# Altium integrated library TI Amplifiers and Linear Special Function Amplifier.IntLib: 708 symbols (part 33 of 47)
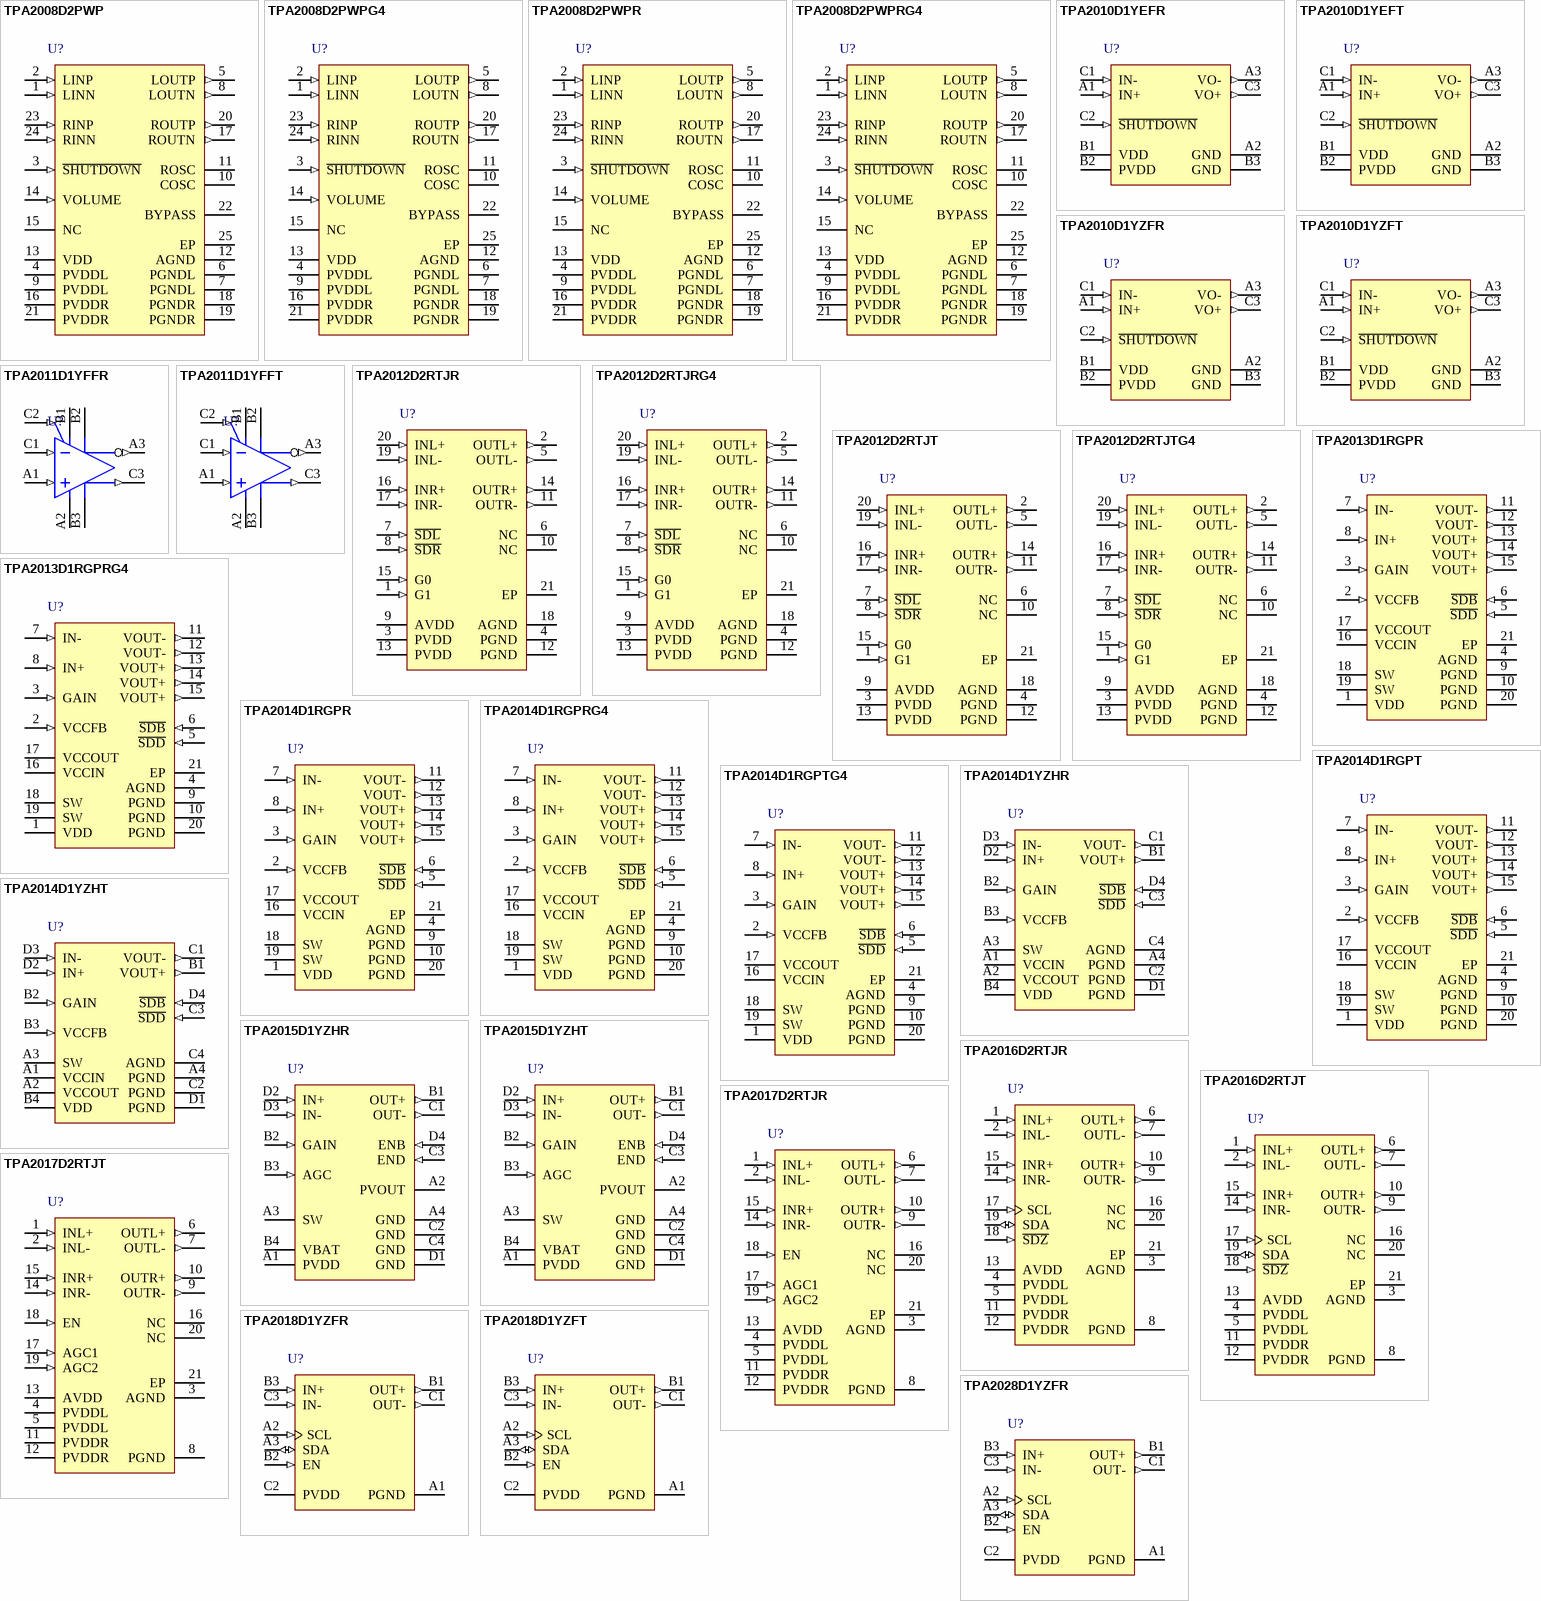
[diagram p71: symbols TPA2008D2PWP to TPA2028D1YZFR]

## TPA2014D1YZHT
designator U?
1.5-W Constant Output Power Class-D Audio Amplifier with Integrated Boost Converter, -40 to 85 degC, 16-pin BGA (YZH16), Green (RoHS & no Sb/Br); Manufacturer: Texas Instruments; PartNumber: TPA2014D1YZHT; Output Power(W): 1.5; PSRR(dB): -91; Speaker Channels: Mono; SubFamily: Dynamic Speaker; Supply Max(Max)(Volt): 5.5; Supply Min(Min)(Volt): 2.5; DatasheetVersion: SLAS559A; PackageVersion: 4205060/F, 05/2013; PackageReference: YZH16-2280X2280DE; PackageDescription: 16-Ball Silicon Grid Array, Body 2.28 x 2.28 mm, Pitch 0.5 mm; Supplier 1: Digi-Key; Supplier Part Number 1: TPA2014D1YZHT-ND; Supplier 2: Mouser; Supplier Part Number 2: 595-TPA2014D1YZHT; Eco-Plan: Green (RoHS & no Sb/Br); Speaker Amp Type: Class-D; Mounting Technology: Surface Mount; ComponentLink1Description: Manufacturer URL; ComponentLink1URL: http://www.ti.com/; ComponentLink2Description: Datasheet; ComponentLink2URL: http://www.ti.com/general/docs/lit/getliterature.tsp?genericPartNumber=TPA2014D1&fileType=pdf; ComponentLink3Description: Package Specification; ComponentLink3URL: http://www.ti.com/lit/ds/symlink/tpa2014d1.pdf
footprint TI-YZH16-2280X2280DE (BGA, 16-Balls, Body 2.28x2.28mm, Pitch 0.5mm)
pins: A1 VCCIN (power) "Class-D audio power amplifier voltage supply - connect to VCCOUT", A2 VCCOUT (power) "Boost converter output - connect to VCCIN", A3 SW (power) "Boost and rectifying switch input", A4 PGND (power) "Power ground - connect all GND pins together", B1 VOUT+ (out) "Positive audio output", B2 GAIN (in) "Gain selection pin", B3 VCCFB (in) "Voltage feedback", B4 VDD (power) "Supply voltage", C1 VOUT- (out) "Negative audio output", C2 PGND (power) "Power ground - connect all GND pins together", C3 ~{SDD} (in) "Shutdown terminal for the Class D Amplifier", C4 AGND (power) "Analog ground - connect all GND pins together", D1 PGND (power) "Power ground - connect all GND pins together", D2 IN+ (in) "Positive audio input", D3 IN- (in) "Negative audio input", D4 ~{SDB} (in) "Shutdown terminal for the Boost Converter"

## TPA2015D1YZHR
designator U?
2-W Class-D Audio Amplifier with Adaptive Boost and Battery Tracking SpeakerGuard AGC, -40 to 85 degC, 16-pin BGA (YZH16), Green (RoHS & no Sb/Br); Manufacturer: Texas Instruments; PartNumber: TPA2015D1YZHR; Output Power(W): 1.2; PSRR(dB): 75; Speaker Channels: Mono; SubFamily: Dynamic Speaker; Supply Max(Max)(Volt): 5.2; Supply Min(Min)(Volt): 2.5; DatasheetVersion: SLOS638A; PackageVersion: 4205060/F, 05/2013; PackageReference: YZH16-1954X1954DE; PackageDescription: 16-Ball Silicon Grid Array, Body 1.945 x 1.945 mm, Pitch 0.5 mm; Supplier 1: Digi-Key; Supplier Part Number 1: 296-27551-2-ND; Supplier 2: Digi-Key; Supplier Part Number 2: 296-27551-1-ND; Supplier 3: Digi-Key; Supplier Part Number 3: 296-27551-6-ND; Supplier 4: Farnell; Supplier Part Number 4: 1829672; Supplier 5: Newark; Supplier Part Number 5: 78R4082; Supplier 6: Mouser; Supplier Part Number 6: 595-TPA2015D1YZHR; Eco-Plan: Green (RoHS & no Sb/Br); Speaker Amp Type: Class-D; Special Features: AGC; Mounting Technology: Surface Mount; ComponentLink1Description: Manufacturer URL; ComponentLink1URL: http://www.ti.com/; ComponentLink2Description: Datasheet; ComponentLink2URL: http://www.ti.com/general/docs/lit/getliterature.tsp?genericPartNumber=TPA2015D1&fileType=pdf; ComponentLink3Description: Package Specification; ComponentLink3URL: http://www.ti.com/lit/ds/symlink/tpa2015d1.pdf
footprint TI-YZH16-1954X1954DE (BGA, 16-Balls, Body 1.954x1.954mm, Pitch 0.5mm)
pins: A1 PVDD (power) "Class-D power stage supply voltage.", A2 PVOUT (power) "Boost converter output.", A3 SW (power) "Boost and rectifying switch input.", A4 GND (power) "Ground; all ground balls must be connected for proper functionality.", B1 OUT+ (out) "Positive audio output.", B2 GAIN (in) "Gain selection pin.", B3 AGC (in) "Enable and select AGC.", B4 VBAT (power) "Supply voltage.", C1 OUT- (out) "Negative audio output.", C2 GND (power) "Ground; all ground balls must be connected for proper functionality.", C3 END (in) "Enable for the Class-D amplifier; set to logic high to enable.", C4 GND (power) "Ground; all ground balls must be connected for proper functionality.", D1 GND (power) "Ground; all ground balls must be connected for proper functionality.", D2 IN+ (in) "Positive audio input.", D3 IN- (in) "Negative audio input.", D4 ENB (in) "Enable for the boost converter; set to logic high to enable."

## TPA2015D1YZHT
designator U?
2-W Class-D Audio Amplifier with Adaptive Boost and Battery Tracking SpeakerGuard AGC, -40 to 85 degC, 16-pin BGA (YZH16), Green (RoHS & no Sb/Br); Manufacturer: Texas Instruments; PartNumber: TPA2015D1YZHT; Output Power(W): 1.2; PSRR(dB): 75; Speaker Channels: Mono; SubFamily: Dynamic Speaker; Supply Max(Max)(Volt): 5.2; Supply Min(Min)(Volt): 2.5; DatasheetVersion: SLOS638A; PackageVersion: 4205060/F, 05/2013; PackageReference: YZH16-1954X1954DE; PackageDescription: 16-Ball Silicon Grid Array, Body 1.945 x 1.945 mm, Pitch 0.5 mm; Supplier 1: Digi-Key; Supplier Part Number 1: 296-32451-2-ND; Supplier 2: Digi-Key; Supplier Part Number 2: 296-32451-1-ND; Supplier 3: Digi-Key; Supplier Part Number 3: 296-32451-6-ND; Supplier 4: Mouser; Supplier Part Number 4: 595-TPA2015D1YZHT; Eco-Plan: Green (RoHS & no Sb/Br); Speaker Amp Type: Class-D; Special Features: AGC; Mounting Technology: Surface Mount; ComponentLink1Description: Manufacturer URL; ComponentLink1URL: http://www.ti.com/; ComponentLink2Description: Datasheet; ComponentLink2URL: http://www.ti.com/general/docs/lit/getliterature.tsp?genericPartNumber=TPA2015D1&fileType=pdf; ComponentLink3Description: Package Specification; ComponentLink3URL: http://www.ti.com/lit/ds/symlink/tpa2015d1.pdf
footprint TI-YZH16-1954X1954DE (BGA, 16-Balls, Body 1.954x1.954mm, Pitch 0.5mm)
pins: A1 PVDD (power) "Class-D power stage supply voltage.", A2 PVOUT (power) "Boost converter output.", A3 SW (power) "Boost and rectifying switch input.", A4 GND (power) "Ground; all ground balls must be connected for proper functionality.", B1 OUT+ (out) "Positive audio output.", B2 GAIN (in) "Gain selection pin.", B3 AGC (in) "Enable and select AGC.", B4 VBAT (power) "Supply voltage.", C1 OUT- (out) "Negative audio output.", C2 GND (power) "Ground; all ground balls must be connected for proper functionality.", C3 END (in) "Enable for the Class-D amplifier; set to logic high to enable.", C4 GND (power) "Ground; all ground balls must be connected for proper functionality.", D1 GND (power) "Ground; all ground balls must be connected for proper functionality.", D2 IN+ (in) "Positive audio input.", D3 IN- (in) "Negative audio input.", D4 ENB (in) "Enable for the boost converter; set to logic high to enable."

## TPA2016D2RTJR
designator U?
2.8-W/Ch Stereo Class-D Audio Amplifier with SmartGainTM AGC / DRC, -40 to 85 degC, 20-pin QFN (RTJ20), Green (RoHS & no Sb/Br); Manufacturer: Texas Instruments; PartNumber: TPA2016D2RTJR; Output Power(W): 2.8; PSRR(dB): -80; SubFamily: Dynamic Speaker; Supply Max(Max)(Volt): 5.5; Supply Min(Min)(Volt): 2.5; DatasheetVersion: SLOS524D; PackageVersion: 4205505/F, 07/2011; PackageReference: RTJ20-2700X2700TP; PackageDescription: 20-pin Plastic Flat Pack, Body 4 x 4 mm, Pitch 0.5 mm; Supplier 1: Digi-Key; Supplier Part Number 1: 296-25430-2-ND; Supplier 2: Digi-Key; Supplier Part Number 2: 296-25430-1-ND; Supplier 3: Digi-Key; Supplier Part Number 3: 296-25430-6-ND; Supplier 4: Mouser; Supplier Part Number 4: 595-TPA2016D2RTJR; Eco-Plan: Green (RoHS & no Sb/Br); Speaker Amp Type: Class-D; Speaker Channels: Stereo; Special Features: AGC/DRC; Mounting Technology: Surface Mount; ComponentLink1Description: Manufacturer URL; ComponentLink1URL: http://www.ti.com/; ComponentLink2Description: Datasheet; ComponentLink2URL: http://www.ti.com/general/docs/lit/getliterature.tsp?genericPartNumber=TPA2016D2&fileType=pdf; ComponentLink3Description: Package Specification; ComponentLink3URL: http://www.ti.com/litv/pdf/mpqf156e
footprint TI-RTJ20-2700X2700TP_V (QFN, 20-Leads, Body 4x4mm, Pitch 0.5mm, Thermal Pad 2.7x2.7mm)
pins: 1 INL+ (in) "Left channel positive audio input", 2 INL- (in) "Left channel negative audio input", 3 AGND (power) "Analog ground (all GND pins need to be connected)", 4 PVDDL (power) "Left channel power supply (must be the same as AVDD and PVDDR)", 5 PVDDL (power) "Left channel power supply (must be the same as AVDD and PVDDR)", 6 OUTL+ (out) "Left channel positive differential output", 7 OUTL- (out) "Left channel negative differential output", 8 PGND (power) "Power ground (all GND pins need to be connected)", 9 OUTR- (out) "Right channel negative differential output", 10 OUTR+ (out) "Right channel positive differential output", 11 PVDDR (power) "Right channel power supply (must be the same as AVDD and PVDDL)", 12 PVDDR (power) "Right channel power supply (must be the same as AVDD and PVDDL)", 13 AVDD (power) "Analog supply (must be the same as PVDDR and PVDDL)", 14 INR- (in) "Right channel negative audio input", 15 INR+ (in) "Right channel positive audio input", 16 NC "Not connected", 17 SCL (in) "I2C clock interface", 18 ~{SDZ} (in) "Shutdown terminal (active low)", 19 SDA (io) "I2C data interface", 20 NC "Not connected", 21 EP

## TPA2016D2RTJT
designator U?
2.8-W/Ch Stereo Class-D Audio Amplifier with SmartGainTM AGC / DRC, -40 to 85 degC, 20-pin QFN (RTJ20), Green (RoHS & no Sb/Br); Manufacturer: Texas Instruments; PartNumber: TPA2016D2RTJT; Output Power(W): 2.8; PSRR(dB): -80; SubFamily: Dynamic Speaker; Supply Max(Max)(Volt): 5.5; Supply Min(Min)(Volt): 2.5; DatasheetVersion: SLOS524D; PackageVersion: 4205505/F, 07/2011; PackageReference: RTJ20-2700X2700TP; PackageDescription: 20-pin Plastic Flat Pack, Body 4 x 4 mm, Pitch 0.5 mm; Supplier 1: Digi-Key; Supplier Part Number 1: 296-32452-2-ND; Supplier 2: Digi-Key; Supplier Part Number 2: 296-32452-1-ND; Supplier 3: Digi-Key; Supplier Part Number 3: 296-32452-6-ND; Supplier 4: Newark; Supplier Part Number 4: 50R8081; Supplier 5: Mouser; Supplier Part Number 5: 595-TPA2016D2RTJT; Eco-Plan: Green (RoHS & no Sb/Br); Speaker Amp Type: Class-D; Speaker Channels: Stereo; Special Features: AGC/DRC; Mounting Technology: Surface Mount; ComponentLink1Description: Manufacturer URL; ComponentLink1URL: http://www.ti.com/; ComponentLink2Description: Datasheet; ComponentLink2URL: http://www.ti.com/general/docs/lit/getliterature.tsp?genericPartNumber=TPA2016D2&fileType=pdf; ComponentLink3Description: Package Specification; ComponentLink3URL: http://www.ti.com/litv/pdf/mpqf156e
footprint TI-RTJ20-2700X2700TP_V (QFN, 20-Leads, Body 4x4mm, Pitch 0.5mm, Thermal Pad 2.7x2.7mm)
pins: 1 INL+ (in) "Left channel positive audio input", 2 INL- (in) "Left channel negative audio input", 3 AGND (power) "Analog ground (all GND pins need to be connected)", 4 PVDDL (power) "Left channel power supply (must be the same as AVDD and PVDDR)", 5 PVDDL (power) "Left channel power supply (must be the same as AVDD and PVDDR)", 6 OUTL+ (out) "Left channel positive differential output", 7 OUTL- (out) "Left channel negative differential output", 8 PGND (power) "Power ground (all GND pins need to be connected)", 9 OUTR- (out) "Right channel negative differential output", 10 OUTR+ (out) "Right channel positive differential output", 11 PVDDR (power) "Right channel power supply (must be the same as AVDD and PVDDL)", 12 PVDDR (power) "Right channel power supply (must be the same as AVDD and PVDDL)", 13 AVDD (power) "Analog supply (must be the same as PVDDR and PVDDL)", 14 INR- (in) "Right channel negative audio input", 15 INR+ (in) "Right channel positive audio input", 16 NC "Not connected", 17 SCL (in) "I2C clock interface", 18 ~{SDZ} (in) "Shutdown terminal (active low)", 19 SDA (io) "I2C data interface", 20 NC "Not connected", 21 EP

## TPA2017D2RTJR
designator U?
2.8-W/Ch Stereo Class-D Audio Amplifier with Easy SmartGainTM AGC / DRC, -40 to 85 degC, 20-pin QFN (RTJ20), Green (RoHS & no Sb/Br); Manufacturer: Texas Instruments; PartNumber: TPA2017D2RTJR; Output Power(W): 2.8; PSRR(dB): -80; SubFamily: Dynamic Speaker; Supply Max(Max)(Volt): 5.5; Supply Min(Min)(Volt): 2.5; DatasheetVersion: SLOS584; PackageVersion: 4205505/F, 07/2011; PackageReference: RTJ20-2700X2700TP; PackageDescription: 20-pin Plastic Flat Pack, Body 4 x 4 mm, Pitch 0.5 mm; Supplier 1: Digi-Key; Supplier Part Number 1: 296-24368-2-ND; Supplier 2: Digi-Key; Supplier Part Number 2: 296-24368-1-ND; Supplier 3: Digi-Key; Supplier Part Number 3: 296-24368-6-ND; Supplier 4: Mouser; Supplier Part Number 4: 595-TPA2017D2RTJR; Eco-Plan: Green (RoHS & no Sb/Br); Speaker Amp Type: Class-D; Speaker Channels: Stereo; Special Features: AGC/DRC; Mounting Technology: Surface Mount; ComponentLink1Description: Manufacturer URL; ComponentLink1URL: http://www.ti.com/; ComponentLink2Description: Datasheet; ComponentLink2URL: http://www.ti.com/general/docs/lit/getliterature.tsp?genericPartNumber=TPA2017D2&fileType=pdf; ComponentLink3Description: Package Specification; ComponentLink3URL: http://www.ti.com/litv/pdf/mpqf156e
footprint TI-RTJ20-2700X2700TP_V (QFN, 20-Leads, Body 4x4mm, Pitch 0.5mm, Thermal Pad 2.7x2.7mm)
pins: 1 INL+ (in) "Left channel positive audio input", 2 INL- (in) "Left channel negative audio input", 3 AGND (power) "Analog ground (all GND pins need to be connected)", 4 PVDDL (power) "Left channel power supply (must be the same as AVDD and PVDDR)", 5 PVDDL (power) "Left channel power supply (must be the same as AVDD and PVDDR)", 6 OUTL+ (out) "Left channel positive differential output", 7 OUTL- (out) "Left channel negative differential output", 8 PGND (power) "Power ground (all GND pins need to be connected)", 9 OUTR- (out) "Right channel negative differential output", 10 OUTR+ (out) "Right channel positive differential output", 11 PVDDR (power) "Right channel power supply (must be the same as AVDD and PVDDL)", 12 PVDDR (power) "Right channel power supply (must be the same as AVDD and PVDDL)", 13 AVDD (power) "Analog supply (must be the same as PVDDR and PVDDL)", 14 INR- (in) "Right channel negative audio input", 15 INR+ (in) "Right channel positive audio input", 16 NC, 17 AGC1 (in) "AGC select function pin 1", 18 EN (in) "Enable terminal (active high)", 19 AGC2 (in) "AGC select function pin 2", 20 NC, 21 EP

## TPA2017D2RTJT
designator U?
2.8-W/Ch Stereo Class-D Audio Amplifier with Easy SmartGainTM AGC / DRC, -40 to 85 degC, 20-pin QFN (RTJ20), Green (RoHS & no Sb/Br); Manufacturer: Texas Instruments; PartNumber: TPA2017D2RTJT; Output Power(W): 2.8; PSRR(dB): -80; SubFamily: Dynamic Speaker; Supply Max(Max)(Volt): 5.5; Supply Min(Min)(Volt): 2.5; DatasheetVersion: SLOS584; PackageVersion: 4205505/F, 07/2011; PackageReference: RTJ20-2700X2700TP; PackageDescription: 20-pin Plastic Flat Pack, Body 4 x 4 mm, Pitch 0.5 mm; Supplier 1: Digi-Key; Supplier Part Number 1: 296-24395-2-ND; Supplier 2: Digi-Key; Supplier Part Number 2: 296-24395-1-ND; Supplier 3: Digi-Key; Supplier Part Number 3: 296-24395-6-ND; Supplier 4: Newark; Supplier Part Number 4: 06R6179; Supplier 5: Mouser; Supplier Part Number 5: 595-TPA2017D2RTJT; Eco-Plan: Green (RoHS & no Sb/Br); Speaker Amp Type: Class-D; Speaker Channels: Stereo; Special Features: AGC/DRC; Mounting Technology: Surface Mount; ComponentLink1Description: Manufacturer URL; ComponentLink1URL: http://www.ti.com/; ComponentLink2Description: Datasheet; ComponentLink2URL: http://www.ti.com/general/docs/lit/getliterature.tsp?genericPartNumber=TPA2017D2&fileType=pdf; ComponentLink3Description: Package Specification; ComponentLink3URL: http://www.ti.com/litv/pdf/mpqf156e
footprint TI-RTJ20-2700X2700TP_V (QFN, 20-Leads, Body 4x4mm, Pitch 0.5mm, Thermal Pad 2.7x2.7mm)
pins: 1 INL+ (in) "Left channel positive audio input", 2 INL- (in) "Left channel negative audio input", 3 AGND (power) "Analog ground (all GND pins need to be connected)", 4 PVDDL (power) "Left channel power supply (must be the same as AVDD and PVDDR)", 5 PVDDL (power) "Left channel power supply (must be the same as AVDD and PVDDR)", 6 OUTL+ (out) "Left channel positive differential output", 7 OUTL- (out) "Left channel negative differential output", 8 PGND (power) "Power ground (all GND pins need to be connected)", 9 OUTR- (out) "Right channel negative differential output", 10 OUTR+ (out) "Right channel positive differential output", 11 PVDDR (power) "Right channel power supply (must be the same as AVDD and PVDDL)", 12 PVDDR (power) "Right channel power supply (must be the same as AVDD and PVDDL)", 13 AVDD (power) "Analog supply (must be the same as PVDDR and PVDDL)", 14 INR- (in) "Right channel negative audio input", 15 INR+ (in) "Right channel positive audio input", 16 NC, 17 AGC1 (in) "AGC select function pin 1", 18 EN (in) "Enable terminal (active high)", 19 AGC2 (in) "AGC select function pin 2", 20 NC, 21 EP

## TPA2018D1YZFR
designator U?
3-W Mono Class-D Audio Amplifier with SmartGain(TM) AGC / DRC, -40 to 85 degC, 9-pin BGA (YZF9), Green (RoHS & no Sb/Br); Manufacturer: Texas Instruments; PartNumber: TPA2018D1YZFR; Output Power(W): 3; PSRR(dB): -80; SubFamily: Dynamic Speaker; Supply Max(Max)(Volt): 5.5; Supply Min(Min)(Volt): 2.5; DatasheetVersion: SLOS592; PackageVersion: 4205058-4/P, 07/2013; PackageReference: YZF9; PackageDescription: 9-Ball Silicon Grid Array, Body 1.625 x 1.625 mm, Pitch 0.5 mm; Supplier 1: Digi-Key; Supplier Part Number 1: 296-25132-2-ND; Supplier 2: Digi-Key; Supplier Part Number 2: 296-25132-1-ND; Supplier 3: Digi-Key; Supplier Part Number 3: 296-25132-6-ND; Supplier 4: Mouser; Supplier Part Number 4: 595-TPA2018D1YZFR; Eco-Plan: Green (RoHS & no Sb/Br); Speaker Amp Type: Class-D; Speaker Channels: Mono; Special Features: AGC/DRC; Mounting Technology: Surface Mount; ComponentLink1Description: Manufacturer URL; ComponentLink1URL: http://www.ti.com/; ComponentLink2Description: Datasheet; ComponentLink2URL: http://www.ti.com/general/docs/lit/getliterature.tsp?genericPartNumber=TPA2018D1&fileType=pdf; ComponentLink3Description: Package Specification; ComponentLink3URL: http://www.ti.com/lit/ml/mxbg027m/mxbg027m.pdf
footprint TI-YZF9 (BGA, 9-Leads, Body 1.6245x1.6245mm, Pitch 0.5mm)
pins: A1 PGND (power) "Power ground", A2 SCL (in) "I2C clock interface", A3 SDA (io) "I2C data interface", B1 OUT+ (out) "Positive differential output", B2 EN (in) "Enable terminal (active high)", B3 IN+ (in) "Positive audio input", C1 OUT- (out) "Negative differential output", C2 PVDD (power) "Power supply", C3 IN- (in) "Negative audio input"

## TPA2018D1YZFT
designator U?
3-W Mono Class-D Audio Amplifier with SmartGain(TM) AGC / DRC, -40 to 85 degC, 9-pin BGA (YZF9), Green (RoHS & no Sb/Br); Manufacturer: Texas Instruments; PartNumber: TPA2018D1YZFT; Output Power(W): 3; PSRR(dB): -80; SubFamily: Dynamic Speaker; Supply Max(Max)(Volt): 5.5; Supply Min(Min)(Volt): 2.5; DatasheetVersion: SLOS592; PackageVersion: 4205058-4/P, 07/2013; PackageReference: YZF9; PackageDescription: 9-Ball Silicon Grid Array, Body 1.625 x 1.625 mm, Pitch 0.5 mm; Supplier 1: Digi-Key; Supplier Part Number 1: 296-32453-2-ND; Supplier 2: Digi-Key; Supplier Part Number 2: 296-32453-1-ND; Supplier 3: Digi-Key; Supplier Part Number 3: 296-32453-6-ND; Supplier 4: Newark; Supplier Part Number 4: 29R0267; Supplier 5: Mouser; Supplier Part Number 5: 595-TPA2018D1YZFT; Eco-Plan: Green (RoHS & no Sb/Br); Speaker Amp Type: Class-D; Speaker Channels: Mono; Special Features: AGC/DRC; Mounting Technology: Surface Mount; ComponentLink1Description: Manufacturer URL; ComponentLink1URL: http://www.ti.com/; ComponentLink2Description: Datasheet; ComponentLink2URL: http://www.ti.com/general/docs/lit/getliterature.tsp?genericPartNumber=TPA2018D1&fileType=pdf; ComponentLink3Description: Package Specification; ComponentLink3URL: http://www.ti.com/lit/ml/mxbg027m/mxbg027m.pdf
footprint TI-YZF9 (BGA, 9-Leads, Body 1.6245x1.6245mm, Pitch 0.5mm)
pins: A1 PGND (power) "Power ground", A2 SCL (in) "I2C clock interface", A3 SDA (io) "I2C data interface", B1 OUT+ (out) "Positive differential output", B2 EN (in) "Enable terminal (active high)", B3 IN+ (in) "Positive audio input", C1 OUT- (out) "Negative differential output", C2 PVDD (power) "Power supply", C3 IN- (in) "Negative audio input"

## TPA2028D1YZFR
designator U?
3-W Mono Class-D Audio Amplifier with fast gain ramp SmartGain(TM) AGC and DRC, -40 to 85 degC, 9-pin BGA (YZF9), Green (RoHS & no Sb/Br); Manufacturer: Texas Instruments; PartNumber: TPA2028D1YZFR; Output Power(W): 3; PSRR(dB): -80; Special Features: AGC/DRC; SubFamily: Dynamic Speaker; Supply Max(Max)(Volt): 5.5; Supply Min(Min)(Volt): 2.5; DatasheetVersion: SLOS660B; PackageVersion: 4205058-4/P, 07/2013; PackageReference: YZF9; PackageDescription: 9-Ball Silicon Grid Array, Body 1.625 x 1.625 mm, Pitch 0.5 mm; Supplier 1: Digi-Key; Supplier Part Number 1: 296-25790-2-ND; Supplier 2: Digi-Key; Supplier Part Number 2: 296-25790-1-ND; Supplier 3: Digi-Key; Supplier Part Number 3: 296-25790-6-ND; Supplier 4: Newark; Supplier Part Number 4: 69R0432; Supplier 5: Mouser; Supplier Part Number 5: 595-TPA2028D1YZFR; Eco-Plan: Green (RoHS & no Sb/Br); Speaker Amp Type: Class-D; Speaker Channels: Mono; Mounting Technology: Surface Mount; ComponentLink1Description: Manufacturer URL; ComponentLink1URL: http://www.ti.com/; ComponentLink2Description: Datasheet; ComponentLink2URL: http://www.ti.com/general/docs/lit/getliterature.tsp?genericPartNumber=TPA2028D1&fileType=pdf; ComponentLink3Description: Package Specification; ComponentLink3URL: http://www.ti.com/lit/ml/mxbg027m/mxbg027m.pdf
footprint TI-YZF9 (BGA, 9-Leads, Body 1.6245x1.6245mm, Pitch 0.5mm)
pins: A1 PGND (power) "Power ground", A2 SCL (in) "I2C clock interface", A3 SDA (io) "I2C data interface", B1 OUT+ (out) "Positive differential output", B2 EN (in) "Enable terminal (active high)", B3 IN+ (in) "Positive audio input", C1 OUT- (out) "Negative differential output", C2 PVDD (power) "Power supply", C3 IN- (in) "Negative audio input"

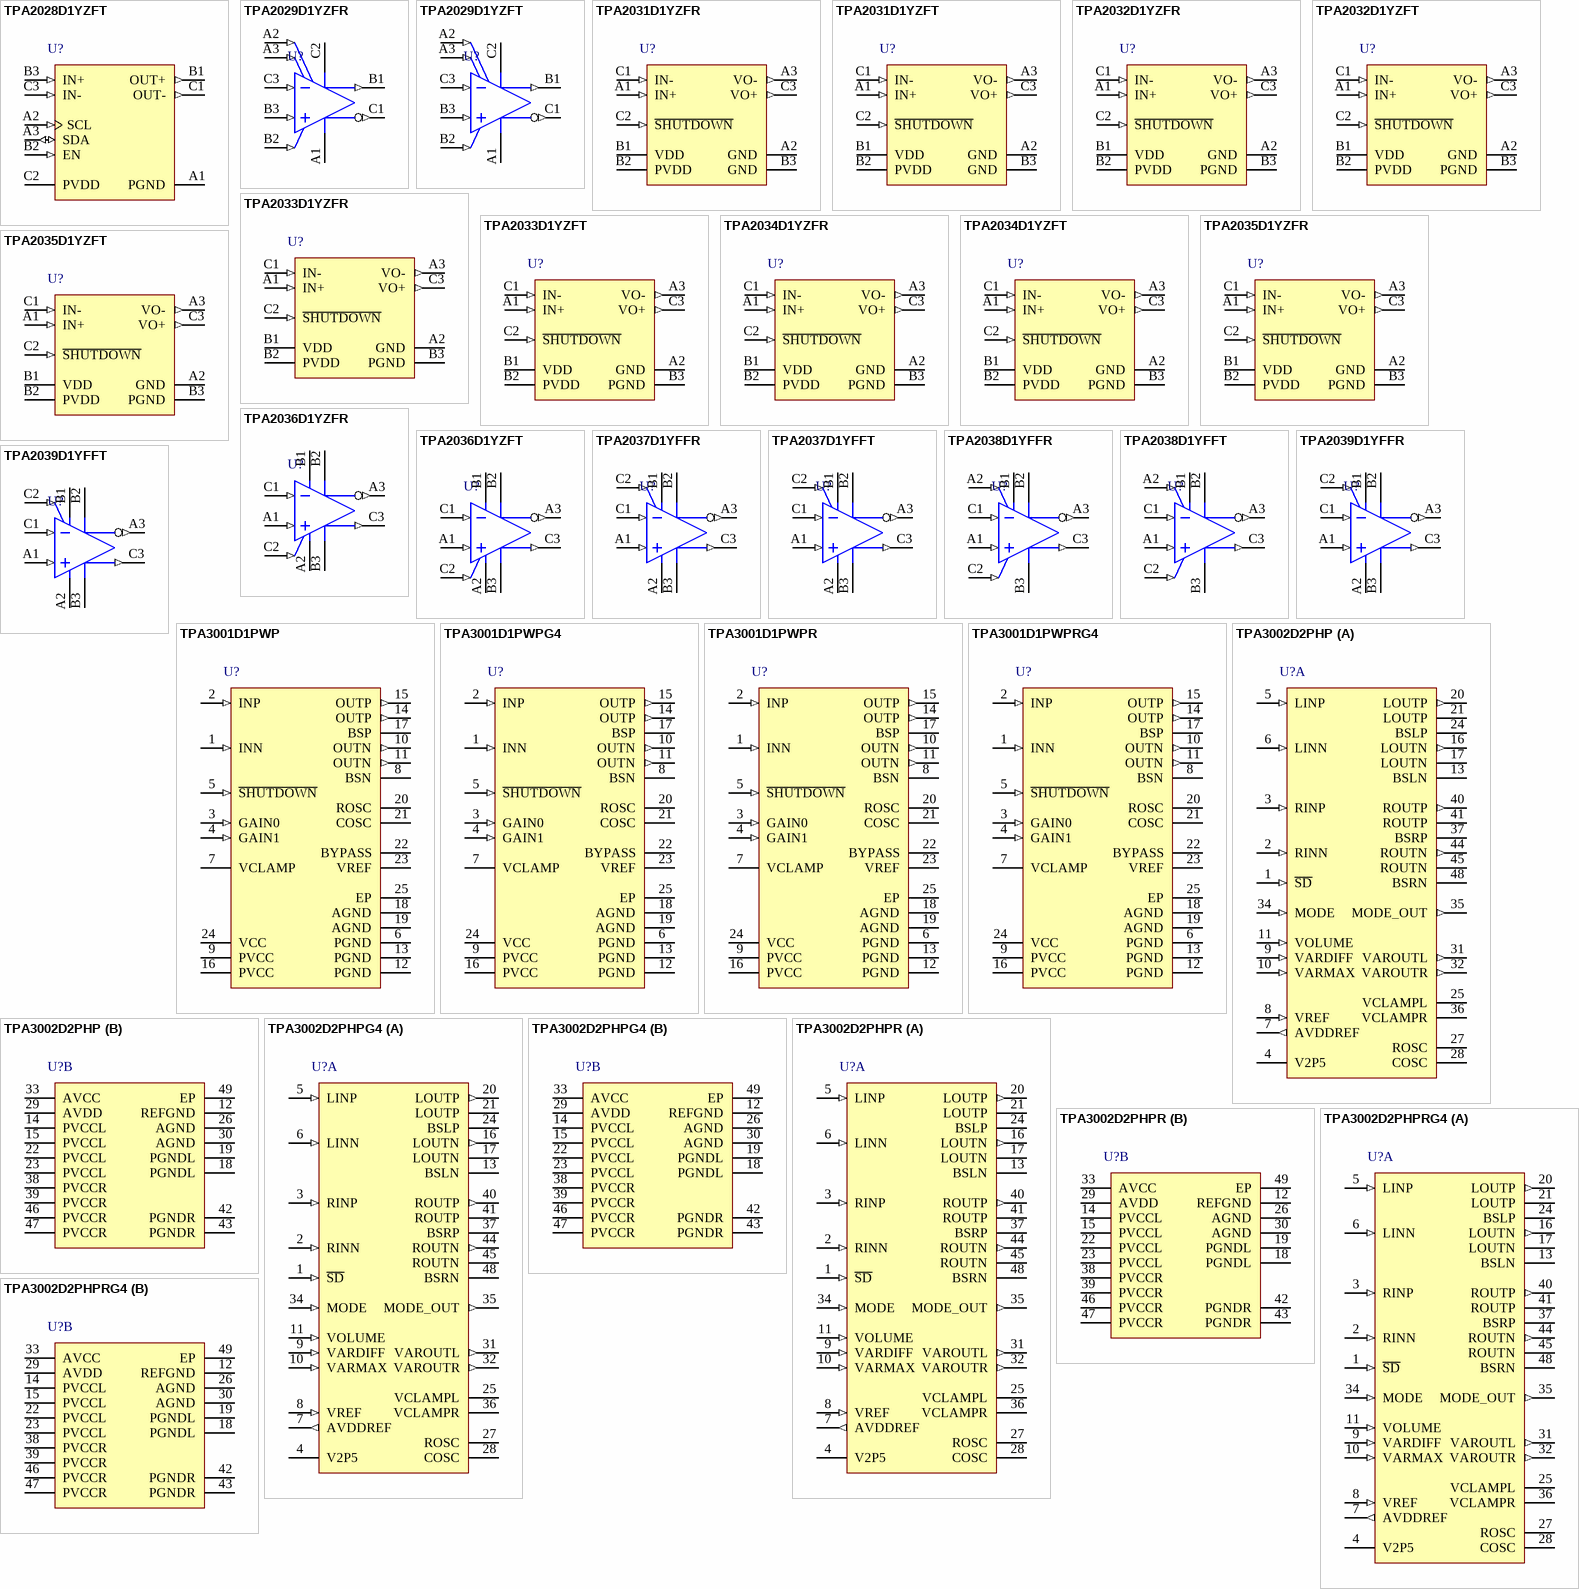
[diagram p29: symbols TPA2028D1YZFT to TPA3002D2PHPRG4]

## TPA2028D1YZFT
designator U?
3-W Mono Class-D Audio Amplifier with fast gain ramp SmartGain(TM) AGC and DRC, -40 to 85 degC, 9-pin BGA (YZF9), Green (RoHS & no Sb/Br); Manufacturer: Texas Instruments; PartNumber: TPA2028D1YZFT; Output Power(W): 3; PSRR(dB): -80; Special Features: AGC/DRC; SubFamily: Dynamic Speaker; Supply Max(Max)(Volt): 5.5; Supply Min(Min)(Volt): 2.5; DatasheetVersion: SLOS660B; PackageVersion: 4205058-4/P, 07/2013; PackageReference: YZF9; PackageDescription: 9-Ball Silicon Grid Array, Body 1.625 x 1.625 mm, Pitch 0.5 mm; Supplier 1: Digi-Key; Supplier Part Number 1: 296-27190-2-ND; Supplier 2: Digi-Key; Supplier Part Number 2: 296-27190-1-ND; Supplier 3: Digi-Key; Supplier Part Number 3: 296-27190-6-ND; Supplier 4: Farnell; Supplier Part Number 4: 1815756; Supplier 5: Farnell; Supplier Part Number 5: 1815756RL; Supplier 6: Newark; Supplier Part Number 6: 28X4489; Supplier 7: Newark; Supplier Part Number 7: 64R8564; Supplier 8: Mouser; Supplier Part Number 8: 595-TPA2028D1YZFT; Eco-Plan: Green (RoHS & no Sb/Br); Speaker Amp Type: Class-D; Speaker Channels: Mono; Mounting Technology: Surface Mount; ComponentLink1Description: Manufacturer URL; ComponentLink1URL: http://www.ti.com/; ComponentLink2Description: Datasheet; ComponentLink2URL: http://www.ti.com/general/docs/lit/getliterature.tsp?genericPartNumber=TPA2028D1&fileType=pdf; ComponentLink3Description: Package Specification; ComponentLink3URL: http://www.ti.com/lit/ml/mxbg027m/mxbg027m.pdf
footprint TI-YZF9 (BGA, 9-Leads, Body 1.6245x1.6245mm, Pitch 0.5mm)
pins: A1 PGND (power) "Power ground", A2 SCL (in) "I2C clock interface", A3 SDA (io) "I2C data interface", B1 OUT+ (out) "Positive differential output", B2 EN (in) "Enable terminal (active high)", B3 IN+ (in) "Positive audio input", C1 OUT- (out) "Negative differential output", C2 PVDD (power) "Power supply", C3 IN- (in) "Negative audio input"

## TPA2029D1YZFR
designator U?
3-W Mono Class-D Amplifier with Smart Gain AGC / DRC, -40 to 85 degC, 9-pin BGA (YZF9), Green (RoHS & no Sb/Br); Manufacturer: Texas Instruments; PartNumber: TPA2029D1YZFR; Output Power(W): 3; PSRR(dB): -80; SubFamily: Dynamic Speaker; Supply Max(Max)(Volt): 5.5; Supply Min(Min)(Volt): 2.5; DatasheetVersion: SLOS661A; PackageVersion: 4205058-4/P, 07/2013; PackageReference: YZF9; PackageDescription: 9-Ball Silicon Grid Array, Body 1.625 x 1.625 mm, Pitch 0.5 mm; Supplier 1: Digi-Key; Supplier Part Number 1: 296-36782-2-ND; Supplier 2: Digi-Key; Supplier Part Number 2: 296-36782-1-ND; Supplier 3: Digi-Key; Supplier Part Number 3: 296-36782-6-ND; Supplier 4: Mouser; Supplier Part Number 4: 595-TPA2029D1YZFR; Eco-Plan: Green (RoHS & no Sb/Br); Speaker Amp Type: Class-D; Speaker Channels: Mono; Mounting Technology: Surface Mount; ComponentLink1Description: Manufacturer URL; ComponentLink1URL: http://www.ti.com/; ComponentLink2Description: Datasheet; ComponentLink2URL: http://www.ti.com/general/docs/lit/getliterature.tsp?genericPartNumber=TPA2029D1&fileType=pdf; ComponentLink3Description: Package Specification; ComponentLink3URL: http://www.ti.com/lit/ml/mxbg027m/mxbg027m.pdf
footprint TI-YZF9 (BGA, 9-Leads, Body 1.6245x1.6245mm, Pitch 0.5mm)
pins: A1 PGND (power) "Power ground", A2 AGC1 (in) "AGC select function pin 1", A3 AGC2 (in) "AGC select function pin 2", B1 OUT+ (out) "Positive differential output", B2 EN (in) "Enable terminal (active high)", B3 IN+ (in) "Positive audio input", C1 OUT- (out) "Negative differential output", C2 PVDD (power) "Power supply", C3 IN- (in) "Negative audio input"

## TPA2029D1YZFT
designator U?
3-W Mono Class-D Amplifier with Smart Gain AGC / DRC, -40 to 85 degC, 9-pin BGA (YZF9), Green (RoHS & no Sb/Br); Manufacturer: Texas Instruments; PartNumber: TPA2029D1YZFT; Output Power(W): 3; PSRR(dB): -80; SubFamily: Dynamic Speaker; Supply Max(Max)(Volt): 5.5; Supply Min(Min)(Volt): 2.5; DatasheetVersion: SLOS661A; PackageVersion: 4205058-4/P, 07/2013; PackageReference: YZF9; PackageDescription: 9-Ball Silicon Grid Array, Body 1.625 x 1.625 mm, Pitch 0.5 mm; Supplier 1: Digi-Key; Supplier Part Number 1: 296-30264-2-ND; Supplier 2: Digi-Key; Supplier Part Number 2: 296-30264-1-ND; Supplier 3: Digi-Key; Supplier Part Number 3: 296-30264-6-ND; Supplier 4: Farnell; Supplier Part Number 4: 2095820; Supplier 5: Mouser; Supplier Part Number 5: 595-TPA2029D1YZFT; Eco-Plan: Green (RoHS & no Sb/Br); Speaker Amp Type: Class-D; Speaker Channels: Mono; Mounting Technology: Surface Mount; ComponentLink1Description: Manufacturer URL; ComponentLink1URL: http://www.ti.com/; ComponentLink2Description: Datasheet; ComponentLink2URL: http://www.ti.com/general/docs/lit/getliterature.tsp?genericPartNumber=TPA2029D1&fileType=pdf; ComponentLink3Description: Package Specification; ComponentLink3URL: http://www.ti.com/lit/ml/mxbg027m/mxbg027m.pdf
footprint TI-YZF9 (BGA, 9-Leads, Body 1.6245x1.6245mm, Pitch 0.5mm)
pins: A1 PGND (power) "Power ground", A2 AGC1 (in) "AGC select function pin 1", A3 AGC2 (in) "AGC select function pin 2", B1 OUT+ (out) "Positive differential output", B2 EN (in) "Enable terminal (active high)", B3 IN+ (in) "Positive audio input", C1 OUT- (out) "Negative differential output", C2 PVDD (power) "Power supply", C3 IN- (in) "Negative audio input"

## TPA2031D1YZFR
designator U?
2.5-W Mono Class-D Audio Power Amplifier with Slow Start-Up, -40 to 85 degC, 9-pin BGA (YZF9), Green (RoHS & no Sb/Br); Manufacturer: Texas Instruments; PartNumber: TPA2031D1YZFR; Output Power(W): 2.5; PSRR(dB): -75; SubFamily: Dynamic Speaker; Supply Max(Max)(Volt): 5.5; DatasheetVersion: SLOS546; PackageVersion: 4205058-4/P, 07/2013; PackageReference: YZF9; PackageDescription: 9-Ball Silicon Grid Array, Body 1.625 x 1.625 mm, Pitch 0.5 mm; Supplier 1: Digi-Key; Supplier Part Number 1: 296-24769-2-ND; Supplier 2: Digi-Key; Supplier Part Number 2: 296-24769-1-ND; Supplier 3: Digi-Key; Supplier Part Number 3: 296-24769-6-ND; Supplier 4: Mouser; Supplier Part Number 4: 595-TPA2031D1YZFR; Eco-Plan: Green (RoHS & no Sb/Br); Speaker Amp Type: Class-D; Speaker Channels: Mono; Supply Min(Min)(Volt): 2.5; Mounting Technology: Surface Mount; ComponentLink1Description: Manufacturer URL; ComponentLink1URL: http://www.ti.com/; ComponentLink2Description: Datasheet; ComponentLink2URL: http://www.ti.com/general/docs/lit/getliterature.tsp?genericPartNumber=TPA2031D1&fileType=pdf; ComponentLink3Description: Package Specification; ComponentLink3URL: http://www.ti.com/lit/ml/mxbg027m/mxbg027m.pdf
footprint TI-YZF9 (BGA, 9-Leads, Body 1.6245x1.6245mm, Pitch 0.5mm)
pins: A1 IN+ (in) "Positive differential input", A2 GND (power) "High-current ground", A3 VO- (out) "Negative BTL output", B1 VDD (power) "Power supply", B2 PVDD (power) "Power supply", B3 GND (power) "High-current ground", C1 IN- (in) "Negative differential input", C2 ~{SHUTDOWN} (in) "Shutdown terminal (active low logic)", C3 VO+ (out) "Positive BTL output"

## TPA2031D1YZFT
designator U?
2.5-W Mono Class-D Audio Power Amplifier with Slow Start-Up, -40 to 85 degC, 9-pin BGA (YZF9), Green (RoHS & no Sb/Br); Manufacturer: Texas Instruments; PartNumber: TPA2031D1YZFT; Output Power(W): 2.5; PSRR(dB): -75; SubFamily: Dynamic Speaker; Supply Max(Max)(Volt): 5.5; DatasheetVersion: SLOS546; PackageVersion: 4205058-4/P, 07/2013; PackageReference: YZF9; PackageDescription: 9-Ball Silicon Grid Array, Body 1.625 x 1.625 mm, Pitch 0.5 mm; Supplier 1: Digi-Key; Supplier Part Number 1: 296-32454-2-ND; Supplier 2: Digi-Key; Supplier Part Number 2: 296-32454-1-ND; Supplier 3: Digi-Key; Supplier Part Number 3: 296-32454-6-ND; Supplier 4: Mouser; Supplier Part Number 4: 595-TPA2031D1YZFT; Eco-Plan: Green (RoHS & no Sb/Br); Speaker Amp Type: Class-D; Speaker Channels: Mono; Supply Min(Min)(Volt): 2.5; Mounting Technology: Surface Mount; ComponentLink1Description: Manufacturer URL; ComponentLink1URL: http://www.ti.com/; ComponentLink2Description: Datasheet; ComponentLink2URL: http://www.ti.com/general/docs/lit/getliterature.tsp?genericPartNumber=TPA2031D1&fileType=pdf; ComponentLink3Description: Package Specification; ComponentLink3URL: http://www.ti.com/lit/ml/mxbg027m/mxbg027m.pdf
footprint TI-YZF9 (BGA, 9-Leads, Body 1.6245x1.6245mm, Pitch 0.5mm)
pins: A1 IN+ (in) "Positive differential input", A2 GND (power) "High-current ground", A3 VO- (out) "Negative BTL output", B1 VDD (power) "Power supply", B2 PVDD (power) "Power supply", B3 GND (power) "High-current ground", C1 IN- (in) "Negative differential input", C2 ~{SHUTDOWN} (in) "Shutdown terminal (active low logic)", C3 VO+ (out) "Positive BTL output"

## TPA2032D1YZFR
designator U?
2.75-W Mono Class-D Audio Amplifier with 2 V/V Fixed Gain, -40 to 85 degC, 9-pin BGA (YZF9), Green (RoHS & no Sb/Br); Manufacturer: Texas Instruments; PartNumber: TPA2032D1YZFR; Output Power(W): 2.75; PSRR(dB): -75; SubFamily: Dynamic Speaker; Supply Max(Max)(Volt): 5.5; Supply Min(Min)(Volt): 2.5; DatasheetVersion: SLOS476; PackageVersion: 4205058-4/P, 07/2013; PackageReference: YZF9; PackageDescription: 9-Ball Silicon Grid Array, Body 1.625 x 1.625 mm, Pitch 0.5 mm; Supplier 1: Digi-Key; Supplier Part Number 1: 296-20659-2-ND; Supplier 2: Digi-Key; Supplier Part Number 2: 296-20659-1-ND; Supplier 3: Digi-Key; Supplier Part Number 3: 296-20659-6-ND; Supplier 4: Newark; Supplier Part Number 4: 04M0230; Supplier 5: Mouser; Supplier Part Number 5: 595-TPA2032D1YZFR; Eco-Plan: Green (RoHS & no Sb/Br); Speaker Amp Type: Class-D; Speaker Channels: Mono; Mounting Technology: Surface Mount; ComponentLink1Description: Manufacturer URL; ComponentLink1URL: http://www.ti.com/; ComponentLink2Description: Datasheet; ComponentLink2URL: http://www.ti.com/general/docs/lit/getliterature.tsp?genericPartNumber=TPA2032D1&fileType=pdf; ComponentLink3Description: Package Specification; ComponentLink3URL: http://www.ti.com/lit/ml/mxbg027m/mxbg027m.pdf
footprint TI-YZF9 (BGA, 9-Leads, Body 1.6245x1.6245mm, Pitch 0.5mm)
pins: A1 IN+ (in) "Positive differential audio input", A2 GND (power) "Analog ground terminal. Must be connected to same potential as PGND using a direct connection to a single point ground.", A3 VO- (out) "Negative BTL audio output", B1 VDD (power) "Power supply terminal. Must be connected to same power supply as PVDD using a direct connection. Voltage must be within values listed in Recommended Operating Conditions table.", B2 PVDD (power) "High-current Power supply terminal. Must be connected to same power supply as VDD using a direct connection. Voltage must be within values listed in Recommended Operating Conditions table.", B3 PGND (power) "High-current Analog ground terminal. Must be connected to same potential as GND using a direct connection to a single point ground.", C1 IN- (in) "Negative differential audio input", C2 ~{SHUTDOWN} (in) "Shutdown terminal. When terminal is low the device is put into Shutdown mode.", C3 VO+ (out) "Positive BTL audio output"

## TPA2032D1YZFT
designator U?
2.75-W Mono Class-D Audio Amplifier with 2 V/V Fixed Gain, -40 to 85 degC, 9-pin BGA (YZF9), Green (RoHS & no Sb/Br); Manufacturer: Texas Instruments; PartNumber: TPA2032D1YZFT; Output Power(W): 2.75; PSRR(dB): -75; SubFamily: Dynamic Speaker; Supply Max(Max)(Volt): 5.5; Supply Min(Min)(Volt): 2.5; DatasheetVersion: SLOS476; PackageVersion: 4205058-4/P, 07/2013; PackageReference: YZF9; PackageDescription: 9-Ball Silicon Grid Array, Body 1.625 x 1.625 mm, Pitch 0.5 mm; Supplier 1: Digi-Key; Supplier Part Number 1: TPA2032D1YZFT-ND; Supplier 2: Newark; Supplier Part Number 2: 04M0231; Supplier 3: Mouser; Supplier Part Number 3: 595-TPA2032D1YZFT; Eco-Plan: Green (RoHS & no Sb/Br); Speaker Amp Type: Class-D; Speaker Channels: Mono; Mounting Technology: Surface Mount; ComponentLink1Description: Manufacturer URL; ComponentLink1URL: http://www.ti.com/; ComponentLink2Description: Datasheet; ComponentLink2URL: http://www.ti.com/general/docs/lit/getliterature.tsp?genericPartNumber=TPA2032D1&fileType=pdf; ComponentLink3Description: Package Specification; ComponentLink3URL: http://www.ti.com/lit/ml/mxbg027m/mxbg027m.pdf
footprint TI-YZF9 (BGA, 9-Leads, Body 1.6245x1.6245mm, Pitch 0.5mm)
pins: A1 IN+ (in) "Positive differential audio input", A2 GND (power) "Analog ground terminal. Must be connected to same potential as PGND using a direct connection to a single point ground.", A3 VO- (out) "Negative BTL audio output", B1 VDD (power) "Power supply terminal. Must be connected to same power supply as PVDD using a direct connection. Voltage must be within values listed in Recommended Operating Conditions table.", B2 PVDD (power) "High-current Power supply terminal. Must be connected to same power supply as VDD using a direct connection. Voltage must be within values listed in Recommended Operating Conditions table.", B3 PGND (power) "High-current Analog ground terminal. Must be connected to same potential as GND using a direct connection to a single point ground.", C1 IN- (in) "Negative differential audio input", C2 ~{SHUTDOWN} (in) "Shutdown terminal. When terminal is low the device is put into Shutdown mode.", C3 VO+ (out) "Positive BTL audio output"

## TPA2033D1YZFR
designator U?
2.75-W Mono Class-D Audio Amplifier with 3 V/V Fixed Gain, -40 to 85 degC, 9-pin BGA (YZF9), Green (RoHS & no Sb/Br); Manufacturer: Texas Instruments; PartNumber: TPA2033D1YZFR; Output Power(W): 2.75; PSRR(dB): -75; SubFamily: Dynamic Speaker; Supply Max(Max)(Volt): 5.5; Supply Min(Min)(Volt): 2.5; DatasheetVersion: SLOS476; PackageVersion: 4205058-4/P, 07/2013; PackageReference: YZF9; PackageDescription: 9-Ball Silicon Grid Array, Body 1.625 x 1.625 mm, Pitch 0.5 mm; Supplier 1: Digi-Key; Supplier Part Number 1: 296-20660-2-ND; Supplier 2: Digi-Key; Supplier Part Number 2: 296-20660-1-ND; Supplier 3: Digi-Key; Supplier Part Number 3: 296-20660-6-ND; Supplier 4: Mouser; Supplier Part Number 4: 595-TPA2033D1YZFR; Eco-Plan: Green (RoHS & no Sb/Br); Speaker Amp Type: Class-D; Speaker Channels: Mono; Mounting Technology: Surface Mount; ComponentLink1Description: Manufacturer URL; ComponentLink1URL: http://www.ti.com/; ComponentLink2Description: Datasheet; ComponentLink2URL: http://www.ti.com/general/docs/lit/getliterature.tsp?genericPartNumber=TPA2033D1&fileType=pdf; ComponentLink3Description: Package Specification; ComponentLink3URL: http://www.ti.com/lit/ml/mxbg027m/mxbg027m.pdf
footprint TI-YZF9 (BGA, 9-Leads, Body 1.6245x1.6245mm, Pitch 0.5mm)
pins: A1 IN+ (in) "Positive differential audio input", A2 GND (power) "Analog ground terminal. Must be connected to same potential as PGND using a direct connection to a single point ground.", A3 VO- (out) "Negative BTL audio output", B1 VDD (power) "Power supply terminal. Must be connected to same power supply as PVDD using a direct connection. Voltage must be within values listed in Recommended Operating Conditions table.", B2 PVDD (power) "High-current Power supply terminal. Must be connected to same power supply as VDD using a direct connection. Voltage must be within values listed in Recommended Operating Conditions table.", B3 PGND (power) "High-current Analog ground terminal. Must be connected to same potential as GND using a direct connection to a single point ground.", C1 IN- (in) "Negative differential audio input", C2 ~{SHUTDOWN} (in) "Shutdown terminal. When terminal is low the device is put into Shutdown mode.", C3 VO+ (out) "Positive BTL audio output"

## TPA2033D1YZFT
designator U?
2.75-W Mono Class-D Audio Amplifier with 3 V/V Fixed Gain, -40 to 85 degC, 9-pin BGA (YZF9), Green (RoHS & no Sb/Br); Manufacturer: Texas Instruments; PartNumber: TPA2033D1YZFT; Output Power(W): 2.75; PSRR(dB): -75; SubFamily: Dynamic Speaker; Supply Max(Max)(Volt): 5.5; Supply Min(Min)(Volt): 2.5; DatasheetVersion: SLOS476; PackageVersion: 4205058-4/P, 07/2013; PackageReference: YZF9; PackageDescription: 9-Ball Silicon Grid Array, Body 1.625 x 1.625 mm, Pitch 0.5 mm; Supplier 1: Digi-Key; Supplier Part Number 1: TPA2033D1YZFT-ND; Supplier 2: Mouser; Supplier Part Number 2: 595-TPA2033D1YZFT; Eco-Plan: Green (RoHS & no Sb/Br); Speaker Amp Type: Class-D; Speaker Channels: Mono; Mounting Technology: Surface Mount; ComponentLink1Description: Manufacturer URL; ComponentLink1URL: http://www.ti.com/; ComponentLink2Description: Datasheet; ComponentLink2URL: http://www.ti.com/general/docs/lit/getliterature.tsp?genericPartNumber=TPA2033D1&fileType=pdf; ComponentLink3Description: Package Specification; ComponentLink3URL: http://www.ti.com/lit/ml/mxbg027m/mxbg027m.pdf
footprint TI-YZF9 (BGA, 9-Leads, Body 1.6245x1.6245mm, Pitch 0.5mm)
pins: A1 IN+ (in) "Positive differential audio input", A2 GND (power) "Analog ground terminal. Must be connected to same potential as PGND using a direct connection to a single point ground.", A3 VO- (out) "Negative BTL audio output", B1 VDD (power) "Power supply terminal. Must be connected to same power supply as PVDD using a direct connection. Voltage must be within values listed in Recommended Operating Conditions table.", B2 PVDD (power) "High-current Power supply terminal. Must be connected to same power supply as VDD using a direct connection. Voltage must be within values listed in Recommended Operating Conditions table.", B3 PGND (power) "High-current Analog ground terminal. Must be connected to same potential as GND using a direct connection to a single point ground.", C1 IN- (in) "Negative differential audio input", C2 ~{SHUTDOWN} (in) "Shutdown terminal. When terminal is low the device is put into Shutdown mode.", C3 VO+ (out) "Positive BTL audio output"

## TPA2034D1YZFR
designator U?
2.75-W Mono Class-D Audio Amplifier with 4 V/V Fixed Gain, -40 to 85 degC, 9-pin BGA (YZF9), Green (RoHS & no Sb/Br); Manufacturer: Texas Instruments; PartNumber: TPA2034D1YZFR; Output Power(W): 2.75; PSRR(dB): -75; SubFamily: Dynamic Speaker; Supply Max(Max)(Volt): 5.5; Supply Min(Min)(Volt): 2.5; DatasheetVersion: SLOS476; PackageVersion: 4205058-4/P, 07/2013; PackageReference: YZF9; PackageDescription: 9-Ball Silicon Grid Array, Body 1.625 x 1.625 mm, Pitch 0.5 mm; Supplier 1: Digi-Key; Supplier Part Number 1: 296-20661-2-ND; Supplier 2: Digi-Key; Supplier Part Number 2: 296-20661-1-ND; Supplier 3: Digi-Key; Supplier Part Number 3: 296-20661-6-ND; Supplier 4: Newark; Supplier Part Number 4: 04M0234; Supplier 5: Mouser; Supplier Part Number 5: 595-TPA2034D1YZFR; Eco-Plan: Green (RoHS & no Sb/Br); Speaker Amp Type: Class-D; Speaker Channels: Mono; Mounting Technology: Surface Mount; ComponentLink1Description: Manufacturer URL; ComponentLink1URL: http://www.ti.com/; ComponentLink2Description: Datasheet; ComponentLink2URL: http://www.ti.com/general/docs/lit/getliterature.tsp?genericPartNumber=TPA2034D1&fileType=pdf; ComponentLink3Description: Package Specification; ComponentLink3URL: http://www.ti.com/lit/ml/mxbg027m/mxbg027m.pdf
footprint TI-YZF9 (BGA, 9-Leads, Body 1.6245x1.6245mm, Pitch 0.5mm)
pins: A1 IN+ (in) "Positive differential audio input", A2 GND (power) "Analog ground terminal. Must be connected to same potential as PGND using a direct connection to a single point ground.", A3 VO- (out) "Negative BTL audio output", B1 VDD (power) "Power supply terminal. Must be connected to same power supply as PVDD using a direct connection. Voltage must be within values listed in Recommended Operating Conditions table.", B2 PVDD (power) "High-current Power supply terminal. Must be connected to same power supply as VDD using a direct connection. Voltage must be within values listed in Recommended Operating Conditions table.", B3 PGND (power) "High-current Analog ground terminal. Must be connected to same potential as GND using a direct connection to a single point ground.", C1 IN- (in) "Negative differential audio input", C2 ~{SHUTDOWN} (in) "Shutdown terminal. When terminal is low the device is put into Shutdown mode.", C3 VO+ (out) "Positive BTL audio output"

## TPA2034D1YZFT
designator U?
2.75-W Mono Class-D Audio Amplifier with 4 V/V Fixed Gain, -40 to 85 degC, 9-pin BGA (YZF9), Green (RoHS & no Sb/Br); Manufacturer: Texas Instruments; PartNumber: TPA2034D1YZFT; Output Power(W): 2.75; PSRR(dB): -75; SubFamily: Dynamic Speaker; Supply Max(Max)(Volt): 5.5; Supply Min(Min)(Volt): 2.5; DatasheetVersion: SLOS476; PackageVersion: 4205058-4/P, 07/2013; PackageReference: YZF9; PackageDescription: 9-Ball Silicon Grid Array, Body 1.625 x 1.625 mm, Pitch 0.5 mm; Supplier 1: Digi-Key; Supplier Part Number 1: 296-36467-2-ND; Supplier 2: Digi-Key; Supplier Part Number 2: 296-36467-1-ND; Supplier 3: Digi-Key; Supplier Part Number 3: 296-36467-6-ND; Supplier 4: Newark; Supplier Part Number 4: 99W3003; Supplier 5: Newark; Supplier Part Number 5: 04M0235; Supplier 6: Mouser; Supplier Part Number 6: 595-TPA2034D1YZFT; Eco-Plan: Green (RoHS & no Sb/Br); Speaker Amp Type: Class-D; Speaker Channels: Mono; Mounting Technology: Surface Mount; ComponentLink1Description: Manufacturer URL; ComponentLink1URL: http://www.ti.com/; ComponentLink2Description: Datasheet; ComponentLink2URL: http://www.ti.com/general/docs/lit/getliterature.tsp?genericPartNumber=TPA2034D1&fileType=pdf; ComponentLink3Description: Package Specification; ComponentLink3URL: http://www.ti.com/lit/ml/mxbg027m/mxbg027m.pdf
footprint TI-YZF9 (BGA, 9-Leads, Body 1.6245x1.6245mm, Pitch 0.5mm)
pins: A1 IN+ (in) "Positive differential audio input", A2 GND (power) "Analog ground terminal. Must be connected to same potential as PGND using a direct connection to a single point ground.", A3 VO- (out) "Negative BTL audio output", B1 VDD (power) "Power supply terminal. Must be connected to same power supply as PVDD using a direct connection. Voltage must be within values listed in Recommended Operating Conditions table.", B2 PVDD (power) "High-current Power supply terminal. Must be connected to same power supply as VDD using a direct connection. Voltage must be within values listed in Recommended Operating Conditions table.", B3 PGND (power) "High-current Analog ground terminal. Must be connected to same potential as GND using a direct connection to a single point ground.", C1 IN- (in) "Negative differential audio input", C2 ~{SHUTDOWN} (in) "Shutdown terminal. When terminal is low the device is put into Shutdown mode.", C3 VO+ (out) "Positive BTL audio output"

## TPA2035D1YZFR
designator U?
2.75-W Mono Class-D Audio Amplifier with Fixed Gain and Short Circuit Auto-Recovery, -40 to 125 degC, 9-pin BGA (YZF9), Green (RoHS & no Sb/Br); Manufacturer: Texas Instruments; PartNumber: TPA2035D1YZFR; Output Power(W): 2.75; PSRR(dB): -75; SubFamily: Dynamic Speaker; Supply Max(Max)(Volt): 5.5; Supply Min(Min)(Volt): 2.5; DatasheetVersion: SLOS562; PackageVersion: 4205058-4/P, 07/2013; PackageReference: YZF9; PackageDescription: 9-Ball Silicon Grid Array, Body 1.625 x 1.625 mm, Pitch 0.5 mm; Supplier 1: Digi-Key; Supplier Part Number 1: 296-23655-2-ND; Supplier 2: Digi-Key; Supplier Part Number 2: 296-23655-1-ND; Supplier 3: Digi-Key; Supplier Part Number 3: 296-23655-6-ND; Supplier 4: Newark; Supplier Part Number 4: 02P9902; Supplier 5: Mouser; Supplier Part Number 5: 595-TPA2035D1YZFR; Eco-Plan: Green (RoHS & no Sb/Br); Speaker Amp Type: Class-D; Speaker Channels: Mono; Mounting Technology: Surface Mount; ComponentLink1Description: Manufacturer URL; ComponentLink1URL: http://www.ti.com/; ComponentLink2Description: Datasheet; ComponentLink2URL: http://www.ti.com/general/docs/lit/getliterature.tsp?genericPartNumber=TPA2035D1&fileType=pdf; ComponentLink3Description: Package Specification; ComponentLink3URL: http://www.ti.com/lit/ml/mxbg027m/mxbg027m.pdf
footprint TI-YZF9 (BGA, 9-Leads, Body 1.6245x1.6245mm, Pitch 0.5mm)
pins: A1 IN+ (in) "Positive differential audio input", A2 GND (power) "Analog ground terminal. Must be connected to same potential as PGND using a direct connection to a single point ground.", A3 VO- (out) "Negative BTL audio output", B1 VDD (power) "Power supply terminal. Must be connected to same power supply as PVDD using a direct connection. Voltage must be within values listed in Recommended Operating Conditions table.", B2 PVDD (power) "High-current Power supply terminal. Must be connected to same power supply as VDD using a direct connection. Voltage must be within values listed in Recommended Operating Conditions table.", B3 PGND (power) "High-current Analog ground terminal. Must be connected to same potential as GND using a direct connection to a single point ground.", C1 IN- (in) "Negative differential audio input", C2 ~{SHUTDOWN} (in) "Shutdown terminal. When terminal is low the device is put into Shutdown mode.", C3 VO+ (out) "Positive BTL audio output"

## TPA2035D1YZFT
designator U?
2.75-W Mono Class-D Audio Amplifier with Fixed Gain and Short Circuit Auto-Recovery, -40 to 125 degC, 9-pin BGA (YZF9), Green (RoHS & no Sb/Br); Manufacturer: Texas Instruments; PartNumber: TPA2035D1YZFT; Output Power(W): 2.75; PSRR(dB): -75; SubFamily: Dynamic Speaker; Supply Max(Max)(Volt): 5.5; Supply Min(Min)(Volt): 2.5; DatasheetVersion: SLOS562; PackageVersion: 4205058-4/P, 07/2013; PackageReference: YZF9; PackageDescription: 9-Ball Silicon Grid Array, Body 1.625 x 1.625 mm, Pitch 0.5 mm; Supplier 1: Digi-Key; Supplier Part Number 1: 296-32455-2-ND; Supplier 2: Digi-Key; Supplier Part Number 2: 296-32455-1-ND; Supplier 3: Digi-Key; Supplier Part Number 3: 296-32455-6-ND; Supplier 4: Mouser; Supplier Part Number 4: 595-TPA2035D1YZFT; Eco-Plan: Green (RoHS & no Sb/Br); Speaker Amp Type: Class-D; Speaker Channels: Mono; Mounting Technology: Surface Mount; ComponentLink1Description: Manufacturer URL; ComponentLink1URL: http://www.ti.com/; ComponentLink2Description: Datasheet; ComponentLink2URL: http://www.ti.com/general/docs/lit/getliterature.tsp?genericPartNumber=TPA2035D1&fileType=pdf; ComponentLink3Description: Package Specification; ComponentLink3URL: http://www.ti.com/lit/ml/mxbg027m/mxbg027m.pdf
footprint TI-YZF9 (BGA, 9-Leads, Body 1.6245x1.6245mm, Pitch 0.5mm)
pins: A1 IN+ (in) "Positive differential audio input", A2 GND (power) "Analog ground terminal. Must be connected to same potential as PGND using a direct connection to a single point ground.", A3 VO- (out) "Negative BTL audio output", B1 VDD (power) "Power supply terminal. Must be connected to same power supply as PVDD using a direct connection. Voltage must be within values listed in Recommended Operating Conditions table.", B2 PVDD (power) "High-current Power supply terminal. Must be connected to same power supply as VDD using a direct connection. Voltage must be within values listed in Recommended Operating Conditions table.", B3 PGND (power) "High-current Analog ground terminal. Must be connected to same potential as GND using a direct connection to a single point ground.", C1 IN- (in) "Negative differential audio input", C2 ~{SHUTDOWN} (in) "Shutdown terminal. When terminal is low the device is put into Shutdown mode.", C3 VO+ (out) "Positive BTL audio output"